# EAGLE library part M40 (library STUNTAZ)
Header 40 Standard 40-pin 0.1" header. Use with straight break away headers (SKU : PRT-00116), right angle break away headers (PRT-00553), swiss pins (PRT-00743), machine pins (PRT-00117), and female headers (PRT-00115).
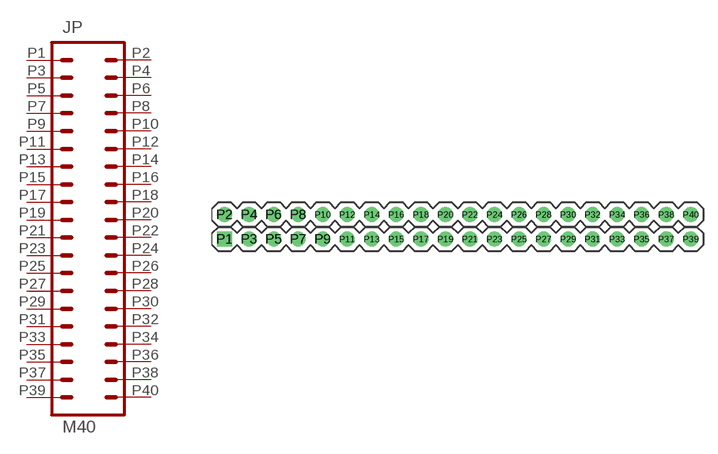
[diagram p1: symbol with the pads of 2X20; footprint 2X20]

Designator prefix JP

## M40  [2X20]
P1  P1  pas
P2  P2  pas
P3  P3  pas
P4  P4  pas
P5  P5  pas
P6  P6  pas
P7  P7  pas
P8  P8  pas
P9  P9  pas
P10  P10  pas
P11  P11  pas
P12  P12  pas
P13  P13  pas
P14  P14  pas
P15  P15  pas
P16  P16  pas
P17  P17  pas
P18  P18  pas
P19  P19  pas
P20  P20  pas
P21  P21  pas
P22  P22  pas
P23  P23  pas
P24  P24  pas
P25  P25  pas
P26  P26  pas
P27  P27  pas
P28  P28  pas
P29  P29  pas
P30  P30  pas
P31  P31  pas
P32  P32  pas
P33  P33  pas
P34  P34  pas
P35  P35  pas
P36  P36  pas
P37  P37  pas
P38  P38  pas
P39  P39  pas
P40  P40  pas

## Footprint 2X20 (pad centres in mm)
Standard 0.1" Header, 2 rows of 20 pins each VERIFIED (Logic Analyzer Board)
drill 1.016 square: P1 0,-2.54
drill 1.016 round: P2 0,0; P3 2.54,-2.54; P4 2.54,0; P5 5.08,-2.54; P6 5.08,0; P7 7.62,-2.54; P8 7.62,0; P9 10.16,-2.54; P10 10.16,0; P11 12.7,-2.54; P12 12.7,0; P13 15.24,-2.54; P14 15.24,0; P15 17.78,-2.54; P16 17.78,0; P17 20.32,-2.54; P18 20.32,0; P19 22.86,-2.54; P20 22.86,0; P21 25.4,-2.54; P22 25.4,0; P23 27.94,-2.54; P24 27.94,0; P25 30.48,-2.54; P26 30.48,0; P27 33.02,-2.54; P28 33.02,0; P29 35.56,-2.54; P30 35.56,0; P31 38.1,-2.54; P32 38.1,0; P33 40.64,-2.54; P34 40.64,0; P35 43.18,-2.54; P36 43.18,0; P37 45.72,-2.54; P38 45.72,0; P39 48.26,-2.54; P40 48.26,0